# Altium footprint library htssop_20_p65_650x440x120_l63x25_t296x296.PcbLib: 1 footprints
Each footprint in its own frame and in the unit in brackets; x right, y up, seen from the top. Pads: shape width x height; smd on the part's side, far side on the other; paste and mask are expansions set on the pad; w line width, h text height; cw(c..) or ccw(c..) is an arc to the next point about the centre after c.
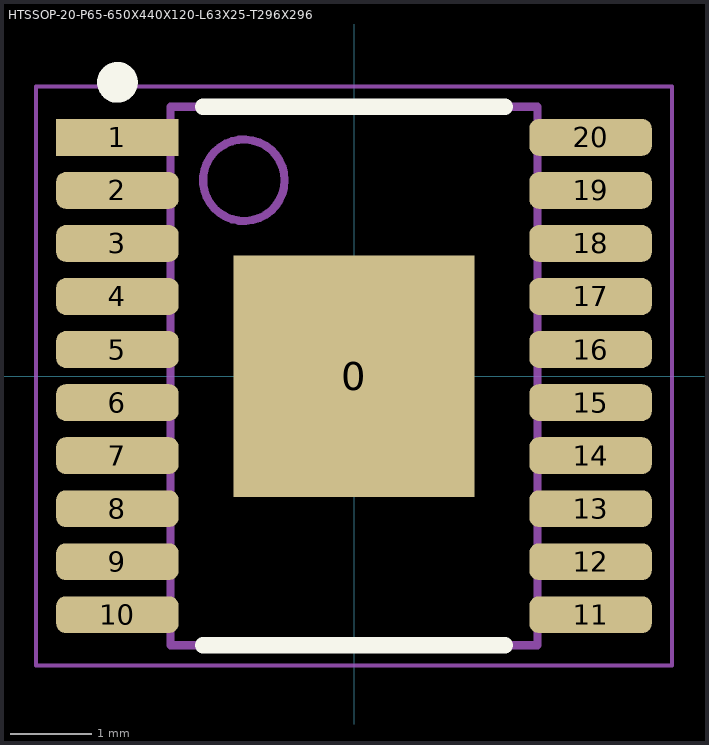
[diagram p0: the footprint, top view; thin cyan lines are the x and y axes]

## HTSSOP-20-P65-650X440X120-L63X25-T296X296 [mm] "TSOP, 20-Leads, Body 6,50x4,40mm, Pitch 0,65mm, Thermal Pad 2.96x2.96mm, IPC Medium Density"
height 1.2
pads (21):
  rect 2.96x2.96 smd: 0(0,0)
  rect 1.5x0.45 smd: 1(-2.9,2.925)
  rrect50% 1.5x0.45 smd: 2(-2.9,2.275) 3(-2.9,1.625) 4(-2.9,0.975) 5(-2.9,0.325) 6(-2.9,-0.325) 7(-2.9,-0.975) 8(-2.9,-1.625) 9(-2.9,-2.275) 10(-2.9,-2.925) 11(2.9,-2.925) 12(2.9,-2.275) 13(2.9,-1.625) 14(2.9,-0.975) 15(2.9,-0.325) 16(2.9,0.325) 17(2.9,0.975) 18(2.9,1.625) 19(2.9,2.275) 20(2.9,2.925)
Top Overlay:
  circle w0.25: c-2.9,3.6 r0.125
  lines w0.2: -1.85,-3.3 1.85,-3.3 ; -1.85,3.3 1.85,3.3
Top Comment:
  text ".Comment" at 0.9,4 h1.2
Top Designator:
  text ".Designator" at -0.6,4 h1.2
Top Component Outline:
  circle w0.1: c-1.35,2.4 r0.5
  lines w0.1: -2.25,-3.3 -2.25,3.3 2.25,3.3 2.25,-3.3 -2.25,-3.3
Top Courtyard (Mech15):
  lines w0.05: -3.9,-3.55 -3.9,3.55 3.9,3.55 3.9,-3.55 -3.9,-3.55
  lines w0.1: -0.5,0 0.5,0 ; 0,-0.5 0,0.5
3D body "HTSSOP-20.STEP": height 1.13, standoff 0, extent -3.2,-3.25 3.2,3.25